# EAGLE library part RF (library RF5V)
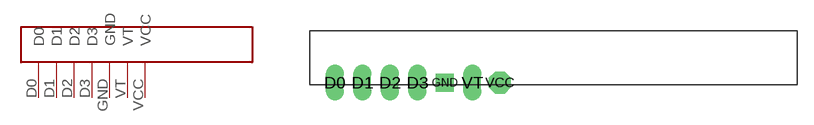
[diagram p0: symbol with the pads of RF5V; footprint RF5V]

Designator prefix -

## RF  [RF5V]
D0  D0
D1  D1
D2  D2
D3  D3
GND  GND
VCC  VCC
VT  VT

## Footprint RF5V (pad centres in mm)
drill 0.6 pad 1.676 long: D0 -20.08,-2.48; D1 -17.54,-2.48; D2 -15,-2.48; D3 -12.46,-2.48; VT -7.38,-2.48
drill 0.6 pad 1.676 square: GND -9.929,-2.489
drill 0.6 pad 2.032 octagon: VCC -4.84,-2.48